# EAGLE library part MIC2009A (library jseng)
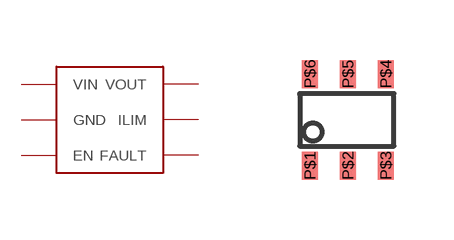
[diagram p6: symbol with the pads of SOT23-M5; footprint SOT23-M5]

Designator prefix -

## MIC2009A  [SOT23-M5]
P$1  VIN
P$2  GND
P$3  EN
P$4  FAULT
P$5  ILIM
P$6  VOUT

## Footprint SOT23-M5 (pad centres in mm)
smd 0.4 x 0.7: P$1 -0.62,-0.35; P$2 0.33,-0.35; P$3 1.28,-0.35; P$4 1.28,1.94; P$5 0.33,1.94; P$6 -0.62,1.94